# Altium footprint library LegacyTOxx.PcbLib: 110 footprints (part 4 of 7)
Each footprint in its own frame and in the unit in brackets; x right, y up, seen from the top. Pads: shape width x height; smd on the part's side, far side on the other; paste and mask are expansions set on the pad; w line width, h text height; cw(c..) or ccw(c..) is an arc to the next point about the centre after c.
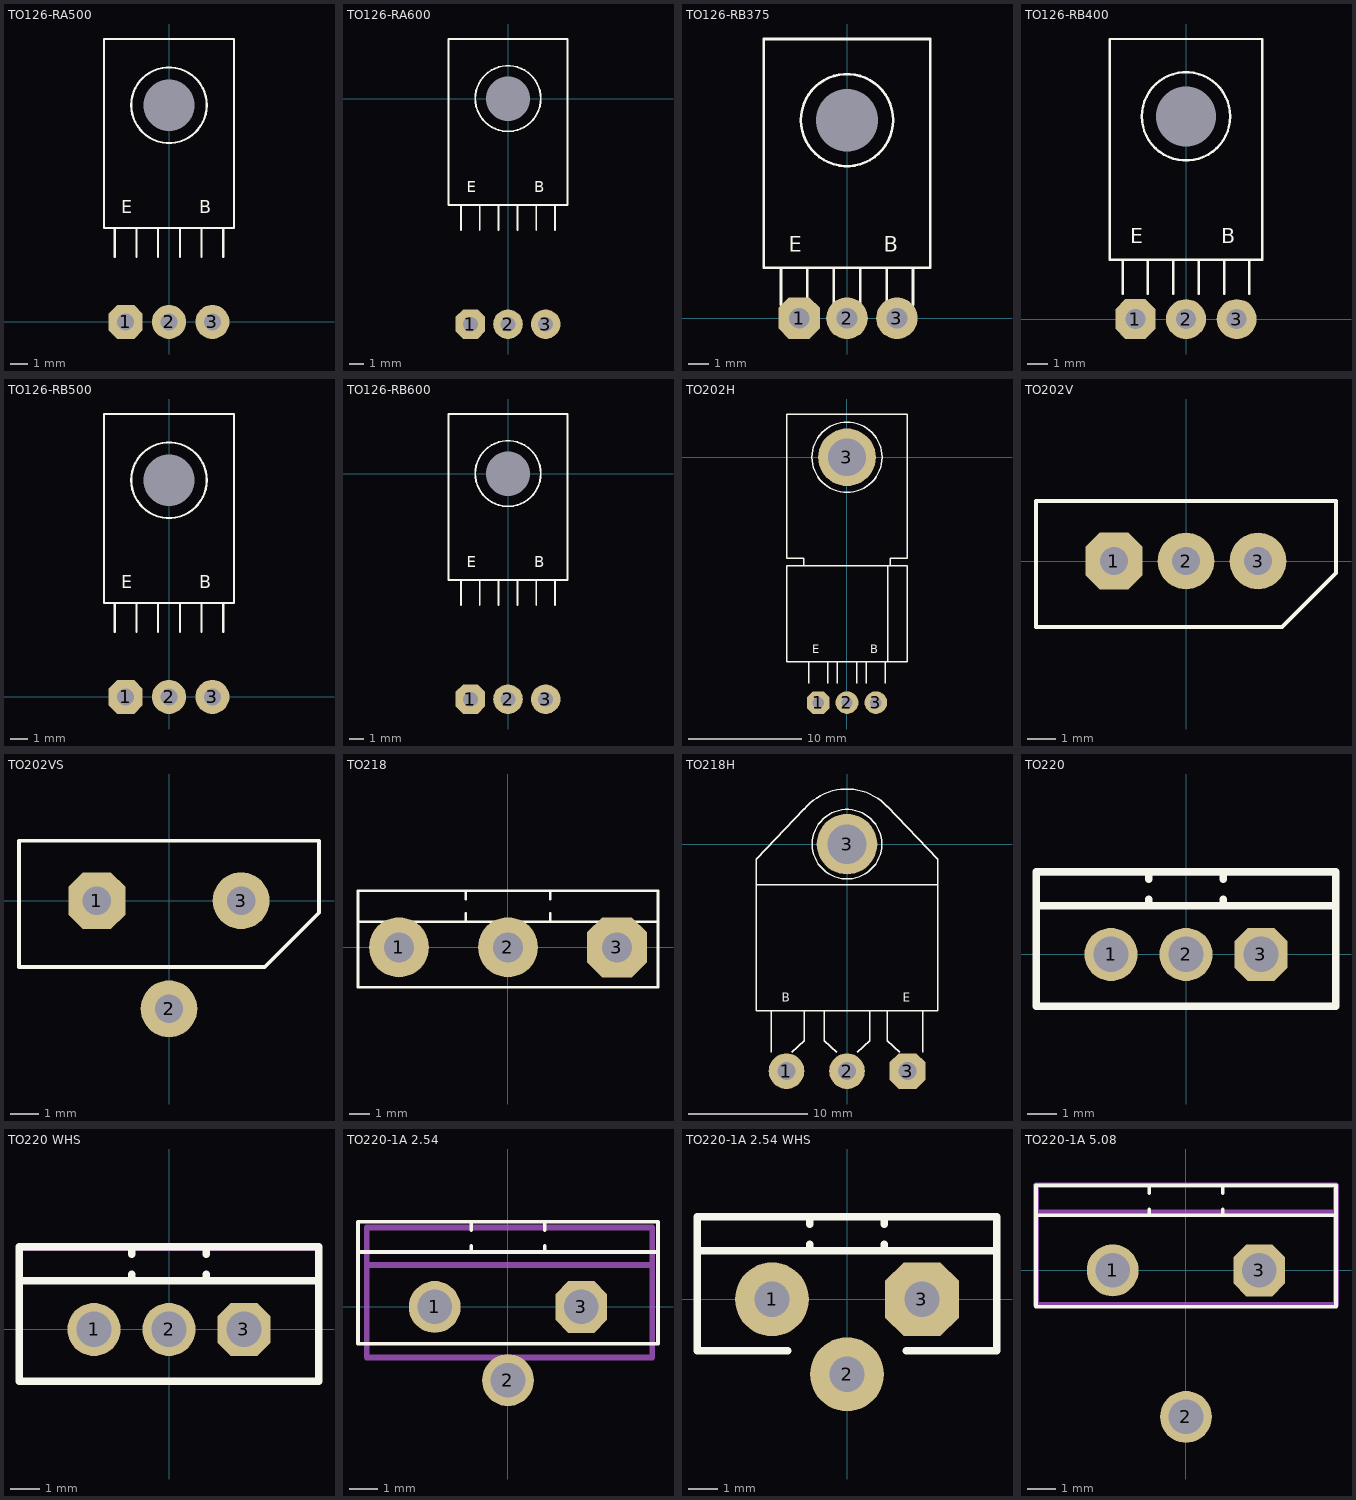
[diagram p3: the footprints below, top view; thin cyan lines are the x and y axes]

## TO126-RA500 [mm]
pads (4):
  round 0 hole 3 unplated: 0(0,12.7)
  oct 2x2 hole 1: 1(-2.54,0)
  round 2 hole 1: 2(0,0) 3(2.54,0)
TopOverlay:
  circle w0.125: c0,12.7 r2.214
  lines w0.125: -3.175,3.81 -3.175,5.503 ; -1.905,3.81 -1.905,5.503 ; -0.635,3.81 -0.635,5.503 ; 0.635,3.81 0.635,5.503 ; 1.905,3.81 1.905,5.503 ; 3.175,3.81 3.175,5.503 ; -3.81,5.503 -2.963,5.503 3.81,5.503 3.81,16.577 -3.81,16.577 -3.81,5.503
  text "E" at -2.794,6.096 h1.27
  text "B" at 1.778,6.096 h1.27
3D body "TO126-RA500.STEP": height 2.8, standoff -3.07, extent -3.81,-0.254 3.81,16.577

## TO126-RA600 [mm]
pads (4):
  round 0 hole 3 unplated: 0(0,0)
  oct 2x2 hole 1: 1(-2.54,-15.24)
  round 2 hole 1: 2(0,-15.24) 3(2.54,-15.24)
TopOverlay:
  circle w0.125: c0,0 r2.214
  lines w0.125: -3.175,-8.89 -3.175,-7.197 ; -1.905,-8.89 -1.905,-7.197 ; -0.635,-8.89 -0.635,-7.197 ; 0.635,-8.89 0.635,-7.197 ; 1.905,-8.89 1.905,-7.197 ; 3.175,-8.89 3.175,-7.197 ; -4.022,-7.197 -4.022,4.022 4.022,4.022 4.022,-7.197 -2.963,-7.197 -4.022,-7.197
  text "B" at 1.778,-6.604 h1.27
  text "E" at -2.794,-6.604 h1.27
3D body "TO126-RA600.STEP": height 2.8, standoff -3.07, extent -3.81,-15.56 3.81,3.81

## TO126-RB375 [mm]
pads (4):
  round 0 hole 3 unplated: 0(0,9.525)
  oct 2x2 hole 1: 1(-2.3,0)
  round 2 hole 1: 2(0,0) 3(2.4,0)
TopOverlay:
  circle w0.125: c0,9.525 r2.214
  lines w0.125: -3.175,0.635 -3.175,2.328 ; -1.905,0.635 -1.905,2.328 ; -0.635,0.635 -0.635,2.328 ; 0.635,0.635 0.635,2.328 ; 1.905,0.635 1.905,2.328 ; 3.175,0.635 3.175,2.328 ; -4,2.425 -4,13.425 4,13.425 4,2.425 -4,2.425
  text "B" at 1.778,2.921 h1.27
  text "E" at -2.794,2.921 h1.27
3D body "TO126-RB375.STEP": height -2.19, standoff -7.75, extent -4,-0.25 4,13.425

## TO126-RB400 [mm]
pads (4):
  round 0 hole 3 unplated: 0(0,10.16)
  oct 2x2 hole 1: 1(-2.54,0)
  round 2 hole 1: 2(0,0) 3(2.54,0)
TopOverlay:
  circle w0.125: c0,10.16 r2.214
  lines w0.125: -3.175,1.27 -3.175,2.963 ; -1.905,1.27 -1.905,2.963 ; -0.635,1.27 -0.635,2.963 ; 0.635,1.27 0.635,2.963 ; 1.905,1.27 1.905,2.963 ; 3.175,1.27 3.175,2.963 ; -3.81,2.963 -3.81,14.037 3.81,14.037 3.81,2.963 -2.963,2.963 -3.81,2.963
  text "B" at 1.778,3.556 h1.27
  text "E" at -2.794,3.556 h1.27
3D body "TO126-RB400.STEP": height -1.69, standoff -6.8, extent -3.81,-0.254 3.81,14.037

## TO126-RB500 [mm]
pads (4):
  round 0 hole 3 unplated: 0(0,12.7)
  oct 2x2 hole 1: 1(-2.54,0)
  round 2 hole 1: 2(0,0) 3(2.54,0)
TopOverlay:
  circle w0.125: c0,12.7 r2.214
  lines w0.125: -3.175,3.81 -3.175,5.503 ; -1.905,3.81 -1.905,5.503 ; -0.635,3.81 -0.635,5.503 ; 0.635,3.81 0.635,5.503 ; 1.905,3.81 1.905,5.503 ; 3.175,3.81 3.175,5.503 ; -3.81,5.503 -3.81,16.577 3.81,16.577 3.81,5.503 -2.963,5.503 -3.81,5.503
  text "B" at 1.778,6.096 h1.27
  text "E" at -2.794,6.096 h1.27
3D body "TO126-RB500.STEP": height -1.69, standoff -6.8, extent -3.81,-0.254 3.81,16.577

## TO126-RB600 [mm]
pads (4):
  round 0 hole 3 unplated: 0(0,0)
  oct 2x2 hole 1: 1(-2.54,-15.24)
  round 2 hole 1: 2(0,-15.24) 3(2.54,-15.24)
TopOverlay:
  circle w0.125: c0,0 r2.214
  lines w0.125: -3.175,-8.89 -3.175,-7.197 ; -1.905,-8.89 -1.905,-7.197 ; -0.635,-8.89 -0.635,-7.197 ; 0.635,-8.89 0.635,-7.197 ; 1.905,-8.89 1.905,-7.197 ; 3.175,-8.89 3.175,-7.197 ; -4.022,-7.197 -2.963,-7.197 4.022,-7.197 4.022,4.022 -4.022,4.022 -4.022,-7.197
  text "E" at -2.794,-6.604 h1.27
  text "B" at 1.778,-6.604 h1.27
3D body "TO126-RB600.STEP": height -1.69, standoff -6.8, extent -3.81,-15.494 3.81,3.877

## TO202H [mm]
pads (4):
  oct 2x2 hole 1: 1(-2.54,-21.59)
  round 2 hole 1: 2(0,-21.59) 3(2.54,-21.59)
  round 5.08 hole 3.302: 3(0,0)
TopOverlay:
  circle w0.125: c0,0 r3.09
  lines w0.125: -3.81,-9.525 -3.81,-8.89 -5.292,-8.89 -5.292,3.81 5.292,3.81 5.292,-8.89 3.81,-8.89 3.81,-9.525 ; -3.387,-19.89 -3.387,-17.992 ; -1.693,-19.89 -1.693,-17.992 ; -0.847,-19.89 -0.847,-17.992 ; 0.847,-19.89 0.847,-17.992 ; 1.693,-19.89 1.693,-17.992 ; 3.387,-19.89 3.387,-17.992 ; 3.598,-17.992 3.598,-9.525 ; -5.292,-17.992 5.292,-17.992 5.292,-9.525 -5.292,-9.525 -5.292,-17.992
  text "B" at 2.032,-17.526 h1.27
  text "E" at -3.048,-17.526 h1.27

## TO202V [mm]
pads (3):
  oct 2x2 hole 1: 1(-2.54,0)
  round 2 hole 1: 2(0,0) 3(2.54,0)
TopOverlay:
  lines w0.125: -5.292,-2.328 -5.292,2.117 5.292,2.117 5.292,-0.423 3.387,-2.328 -5.292,-2.328

## TO202VS [mm]
pads (3):
  oct 2x2 hole 1: 1(-2.54,0)
  round 2 hole 1: 2(0,-3.81) 3(2.54,0)
TopOverlay:
  lines w0.125: -5.283,-2.337 -5.283,2.108 5.283,2.108 5.283,-0.432 3.378,-2.337 -5.283,-2.337

## TO218 [mm]
pads (3):
  round 3 hole 1.5: 1(-5.45,0) 2(0,0)
  oct 3x3 hole 1.5: 3(5.45,0)
TopOverlay:
  lines w0.125: -7.493,1.27 7.493,1.27 ; -2.117,1.27 -2.117,1.693 ; -2.116,2.402 -2.116,2.825 ; 2.117,1.27 2.117,1.693 ; 2.117,2.402 2.117,2.825 ; -7.5,-2 -7.5,2.825 7.5,2.825 7.5,-2 -7.5,-2
3D body "TO218.STEP": height 24.1, standoff -1.18, extent -7.5,-1.975 7.5,2.825

## TO218H [mm]
pads (4):
  round 3 hole 1.5: 1(-5.08,-19.05) 2(0,-19.05)
  round 5.08 hole 3.302: 3(0,0)
  oct 3x3 hole 1.5: 3(5.08,-19.05)
TopOverlay:
  circle w0.125: c0,0 r2.921
  lines w0.125: -6.35,-17.45 -6.35,-13.97 ; -4.657,-17.45 -3.598,-16.51 -3.598,-13.97 ; -3.602,2.917 cw(c0,0) 3.39,3.161 ; -3.598,2.963 -7.62,-1.27 -7.62,-3.387 ; -1.905,-13.97 -1.905,-16.51 -0.847,-17.45 ; 0.847,-17.45 1.905,-16.51 1.905,-13.97 ; 3.387,-13.97 3.387,-16.51 4.445,-17.45 ; 3.387,3.175 7.62,-1.27 7.62,-3.387 ; 6.35,-17.45 6.35,-13.97 ; -7.62,-3.387 7.62,-3.387 ; -7.62,-3.387 -7.62,-13.97 7.62,-13.97 7.62,-3.387
  text "B" at -5.461,-13.462 h1.27
  text "E" at 4.699,-13.462 h1.27

## TO220 [mm]
pads (3):
  round 1.8 hole 1.2: 1(-2.54,0) 2(0,0)
  oct 1.8x1.8 hole 1.2: 3(2.54,0)
TopOverlay:
  lines w0.254: -5.08,1.651 5.08,1.651 ; -1.27,1.651 -1.27,1.863 ; -1.27,2.54 -1.27,2.794 ; 1.27,1.651 1.27,1.863 ; 1.27,2.54 1.27,2.794 ; -5.08,-1.749 -5.08,2.794 5.08,2.794 5.08,-1.749 -5.08,-1.749
Mechanical3:
  text ".Designator / .Comment" at -2.159,1.143 h1.02
Mechanical13:
  lines w0.2: -5.08,1.651 5.08,1.651 ; -5.08,-1.742 -5.08,2.758 5.08,2.758 5.08,-1.742 -5.08,-1.742
3D body "User Library-TO-220-4.STEP": height 25.06, standoff -3.74, extent -5.12,-1.742 5.08,2.758

## TO220 WHS [mm]
pads (3):
  round 1.8 hole 1.2: 1(-2.54,0) 2(0,0)
  oct 1.8x1.8 hole 1.2: 3(2.54,0)
TopOverlay:
  lines w0.254: -5.08,1.651 5.08,1.651 ; -1.27,1.651 -1.27,1.863 ; -1.27,2.54 -1.27,2.794 ; 1.27,1.651 1.27,1.863 ; 1.27,2.54 1.27,2.794 ; -5.08,-1.749 5.08,-1.749 5.08,2.794 -5.08,2.794 -5.08,-1.749
Mechanical3:
  text ".Designator / .Comment" at -2.159,1.143 h1.02
Mechanical13:
  lines w0.2: -5.08,1.651 5.08,1.651 ; -5.08,-1.742 5.08,-1.742 5.08,2.758 -5.08,2.758 -5.08,-1.742
3D body "User Library-TO-220-4.STEP": height 25.06, standoff -3.74, extent -5.12,-1.742 5.08,2.758
3D body "User Library-To-220-6.step": height 25.2, standoff 5.2, extent -7.5,-4 7.5,6

## TO220-1A 2.54 [mm]
pads (3):
  round 1.8 hole 1.2: 1(-2.54,0) 2(0,-2.54)
  oct 1.8x1.8 hole 1.2: 3(2.54,0)
TopOverlay:
  lines w0.125: -5.2,1.905 5.2,1.905 ; -1.27,1.905 -1.27,2.117 ; -1.27,2.667 -1.27,2.921 ; 1.27,1.905 1.27,2.117 ; 1.27,2.667 1.27,2.921 ; -5.2,-1.27 -5.2,2.95 5.2,2.95 5.2,-1.27 -5.2,-1.27
Mechanical3:
  text ".Designator / .Comment" at -2.2,1.84 h1
Mechanical13:
  lines w0.2: -0.35,-1.75 -0.35,-2.259 ; 0.45,-1.75 0.45,-2.259 ; -4.9,1.45 -4.9,2.75 5,2.75 5,1.45 ; -4.9,1.45 5,1.45 ; -4.9,1.45 -4.9,-1.75 5,-1.75 5,1.45 ; -0.35,-2.259 -0.35,-2.495 0.45,-2.495 0.45,-2.259 ; -0.35,-2.259 0.45,-2.259
3D body "TO220-1A 2.54.STEP": height 23.29, standoff -3.87, extent -5.2,-2.791 5.2,2.95

## TO220-1A 2.54 WHS [mm]
pads (3):
  round 2.5 hole 1.2: 1(-2.54,0) 2(0,-2.54)
  oct 2.5x2.5 hole 1.2: 3(2.54,0)
TopOverlay:
  lines w0.254: -5.08,1.651 5.08,1.651 ; -2,-1.75 -2.001,-1.749 -5.08,-1.749 -5.08,2.794 5.08,2.794 5.08,-1.749 2.001,-1.749 2,-1.75 ; -1.27,1.651 -1.27,1.863 ; -1.27,2.54 -1.27,2.794 ; 1.27,1.651 1.27,1.863 ; 1.27,2.54 1.27,2.794
3D body "TO220-1A 2.54.STEP": height 23.29, standoff -3.87, extent -5.2,-2.791 5.2,2.95
3D body "User Library-To-220-6.step": height 25.2, standoff 5.2, extent -7.5,-4 7.5,6

## TO220-1A 5.08 [mm]
pads (3):
  round 1.8 hole 1.2: 1(-2.54,0) 2(0,-5.08)
  oct 1.8x1.8 hole 1.2: 3(2.54,0)
TopOverlay:
  lines w0.125: -5.2,1.905 5.2,1.905 ; -1.27,1.905 -1.27,2.117 ; -1.27,2.667 -1.27,2.921 ; 1.27,1.905 1.27,2.117 ; 1.27,2.667 1.27,2.921 ; -5.2,-1.27 5.2,-1.27 5.2,2.95 -5.2,2.95 -5.2,-1.27
Mechanical3:
  text ".Designator / .Comment" at -2.2,-3.24 h1
Mechanical13:
  lines w0.2: -5.2,2 5.2,2 ; -5.2,-1.191 5.2,-1.191 5.2,2.95 -5.2,2.95 -5.2,-1.191
3D body "TO220-1A 5.08.STEP": height 23.29, standoff -2.41, extent -5.2,-5.331 5.2,2.95